# EAGLE library part INA219 (library autobuoy)
INA219 Voltage/Current monitor
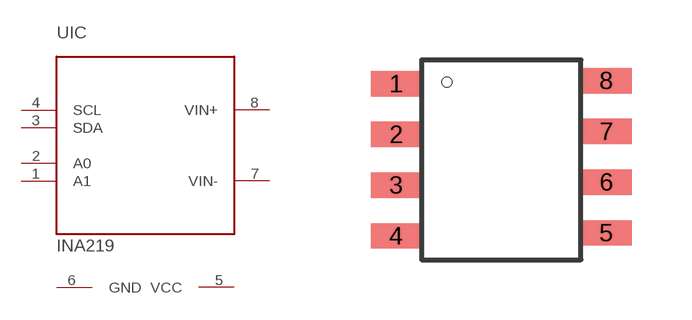
[diagram p1: symbol with the pads of SOIC-8; footprint SOIC-8]

Designator prefix -; gates IC=INA219 SUPPLY=SUPPLY

## INA219  [SOIC-8]
1  IC:A1  in
2  IC:A0  in
3  IC:SDA
4  IC:SCL
5  SUPPLY:VCC  pwr
6  SUPPLY:GND  pwr
7  IC:VIN-  in
8  IC:VIN+  in

## Footprint SOIC-8 (pad centres in mm)
SOIC-8
smd 1.27 x 0.635: 1 -0.635,4.407; 2 -0.635,3.137; 3 -0.635,1.867; 4 -0.635,0.597; 5 4.623,0.673; 6 4.623,1.943; 7 4.623,3.213; 8 4.623,4.483